# Altium footprint library CAP_EL_6.3_8.PcbLib: 1 footprints
Each footprint in its own frame and in the unit in brackets; x right, y up, seen from the top. Pads: shape width x height; smd on the part's side, far side on the other; paste and mask are expansions set on the pad; w line width, h text height; cw(c..) or ccw(c..) is an arc to the next point about the centre after c.
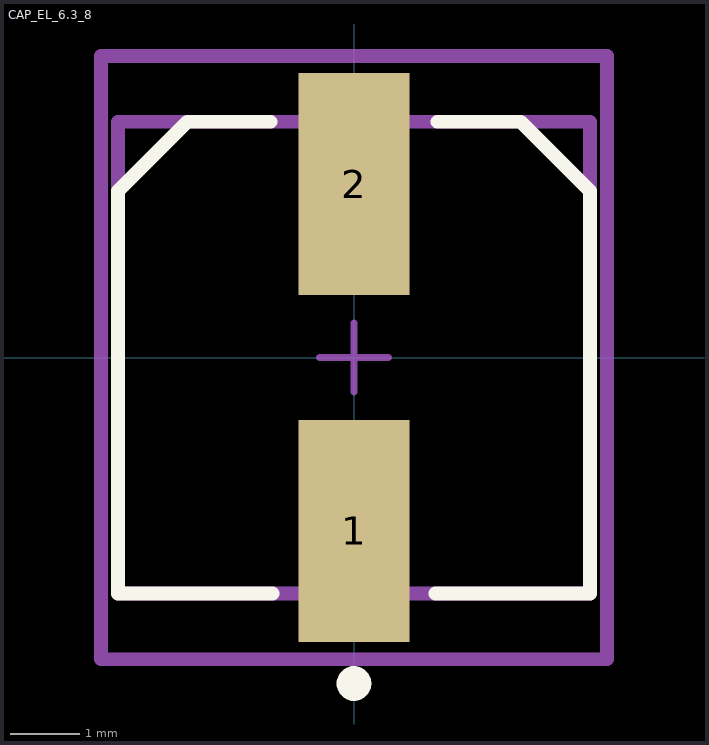
[diagram p0: the footprint, top view; thin cyan lines are the x and y axes]

## CAP_EL_6.3_8 [mm]
pads (2):
  rect 1.6x3.2 smd paste+0 mask+0: 1(0,-2.5) 2(0,2.5)
Top Overlay:
  circle w0.25: c0,-4.7 r0.125
  lines w0.2: -1.2,3.4 -2.4,3.4 -3.4,2.4 -3.4,-3.4 -1.175,-3.4 ; 1.175,-3.4 3.4,-3.4 3.4,2.4 2.4,3.4 1.2,3.4
Top 3D Body:
  lines w0.2: -3.4,-3.4 3.4,-3.4 3.4,3.4 -3.4,3.4 -3.4,-3.4
Top Courtyard:
  lines w0.2: -3.65,-4.35 3.65,-4.35 3.65,4.35 -3.65,4.35 -3.65,-4.35
Top Assembly:
  lines w0.2: -3.65,-4.35 3.65,-4.35 3.65,4.35 -3.65,4.35 -3.65,-4.35
  text ".Designator" at -0.188,0 h1
Top Component Center:
  lines w0.1: -0.5,0 0.5,0 ; 0,-0.5 0,0.5
3D body "Cap_Panasonic_Electronic_Components_EEE-1HA470XP_eec.STEP": height 0.25, standoff 0, extent -3.65,-4.35 3.65,4.35